# EAGLE library part 2X16LCDTOP (library LCD_F330Dmainboard)
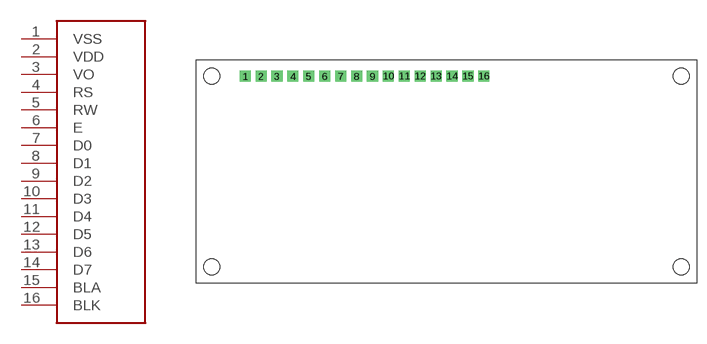
[diagram p1: symbol with the pads of 2X16LCDTOP; footprint 2X16LCDTOP]

Designator prefix -

## 2X16LCDTOP  [2X16LCDTOP]
1  VSS
2  VDD
3  VO
4  RS
5  RW
6  E
7  D0
8  D1
9  D2
10  D3
11  D4
12  D5
13  D6
14  D7
15  BLA
16  BLK

## Footprint 2X16LCDTOP (pad centres in mm)
drill 0.85 pad 1.778 square: 1 7.87,33.02; 2 10.41,33.02; 3 12.95,33.02; 4 15.49,33.02; 5 18.03,33.02; 6 20.57,33.02; 7 23.11,33.02; 8 25.65,33.02; 9 28.19,33.02; 10 30.73,33.02; 11 33.27,33.02; 12 35.81,33.02; 13 38.35,33.02; 14 40.89,33.02; 15 43.43,33.02; 16 45.97,33.02
hole 2.54 at 2.54,33.02
hole 2.54 at 77.47,33.02
hole 2.54 at 77.47,2.54
hole 2.54 at 2.54,2.54